# EAGLE library part LM139DT (library SamacSys_Parts)
STMICROELECTRONICS - LM139DT - COMPARATOR, OPEN COLLECTOR, SOIC-14 Source: Datasheet <http://www.st.com/content/ccc/resource/technical/document/datasheet/bf/7e/d7/a4/67/86/4e/89/CD00000460.pdf/files/CD00000460.pdf/jcr:content/translations/en.CD00000460.pdf>
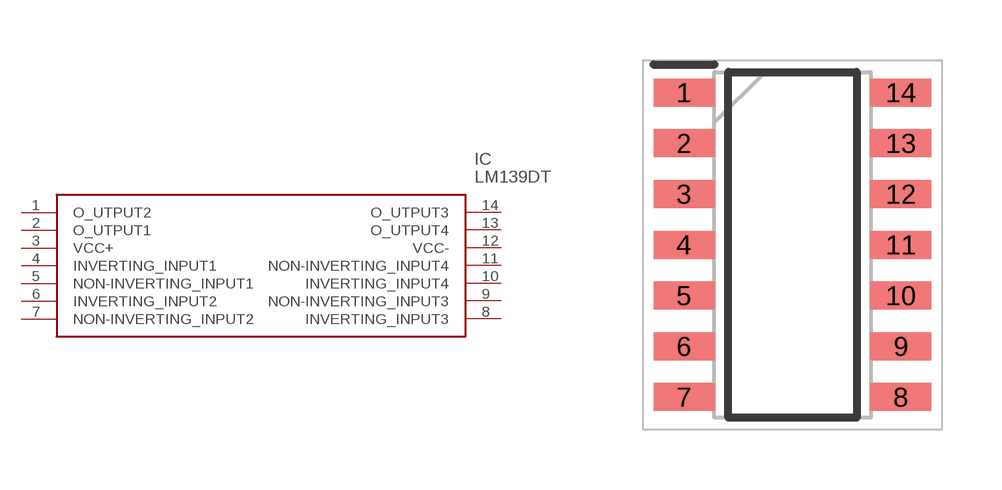
[diagram p5: symbol with the pads of SOIC127P600X175-14N; footprint SOIC127P600X175-14N]

Designator prefix IC

## LM139DT (DESCRIPTION: STMICROELECTRONICS - LM139DT - COMPARATOR, OPEN COLLECTOR, SOIC-14; HEIGHT: 1.75mm; MANUFACTURER_NAME: STMicroelectronics; MANUFACTURER_PART_NUMBER: LM139DT; MOUSER_PART_NUMBER: 511-LM139DT; MOUSER_PRICE-STOCK: https://www.mouser.com/Search/Refine.aspx?Keyword=511-LM139DT)  [SOIC127P600X175-14N]
1  O_UTPUT2
2  O_UTPUT1
3  VCC+
4  INVERTING_INPUT1
5  NON-INVERTING_INPUT1
6  INVERTING_INPUT2
7  NON-INVERTING_INPUT2
8  INVERTING_INPUT3
9  NON-INVERTING_INPUT3
10  INVERTING_INPUT4
11  NON-INVERTING_INPUT4
12  VCC-
13  O_UTPUT4
14  O_UTPUT3

## Footprint SOIC127P600X175-14N (pad centres in mm)
LM139DT-1
smd 1.525 x 0.7: 1 -2.712,3.81; 2 -2.712,2.54; 3 -2.712,1.27; 4 -2.712,0; 5 -2.712,-1.27; 6 -2.712,-2.54; 7 -2.712,-3.81; 8 2.712,-3.81; 9 2.712,-2.54; 10 2.712,-1.27; 11 2.712,0; 12 2.712,1.27; 13 2.712,2.54; 14 2.712,3.81